# EAGLE library part LTC4380 (library HASP)
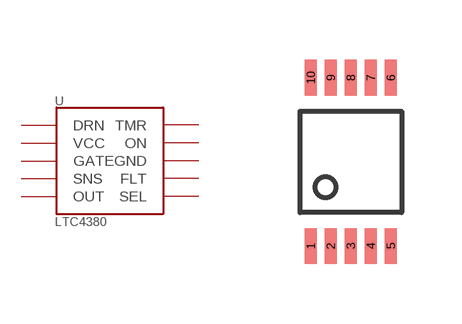
[diagram p1: symbol with the pads of MSOP; footprint MSOP]

Designator prefix U

## LTC4380  [MSOP]
1  DRN
2  VCC
3  GATE
4  SNS
5  OUT
6  SEL
7  FLT
8  GND
9  ON
10  TMR

## Footprint MSOP (pad centres in mm)
smd 0.305 x 0.889: 1 -1.001,-2.108; 2 -0.5,-2.108; 3 0,-2.108; 4 0.5,-2.108; 5 1.001,-2.108; 6 1.001,2.108; 7 0.5,2.108; 8 0,2.108; 9 -0.5,2.108; 10 -1.001,2.108